# Altium schematic symbol library Arduino.SchLib: 3 symbols
Pins are listed as number, name and electrical type; pins without a type are passive.

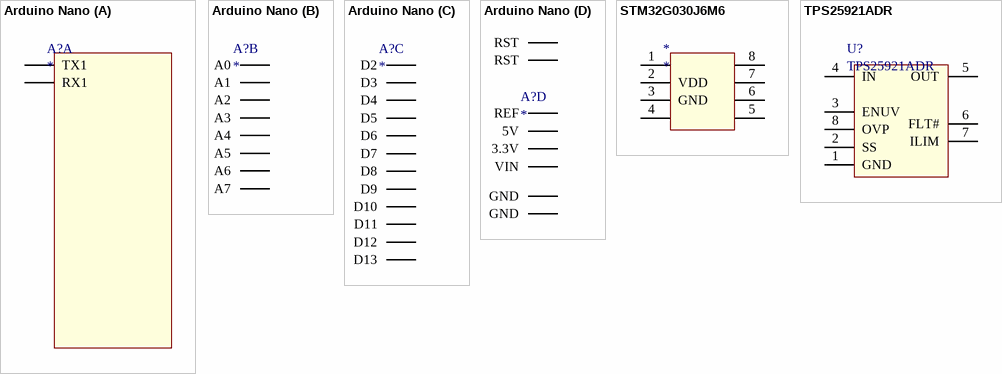
[diagram p0: symbols Arduino Nano to TPS25921ADR]

## Arduino Nano
designator A?
http://www.circuitstoday.com/arduino-nano-tutorial-pinout-schematics
footprint Arduino Nano
part A pins: 1 TX1, 2 RX1
part B pins: 19 A0, 20 A1, 21 A2, 22 A3, 23 A4, 24 A5, 25 A6, 26 A7
part C pins: 5 D2, 6 D3, 7 D4, 8 D5, 9 D6, 10 D7, 11 D8, 12 D9, 13 D10, 14 D11, 15 D12, 16 D13
part D pins: 3 RST, 4 GND, 17 3.3V, 18 REF, 27 5V, 28 RST, 29 GND, 30 VIN

## STM32G030J6M6
designator *
footprint SOIC8
pins: 1, 2 VDD, 3 GND, 4, 5, 6, 7, 8

## TPS25921ADR
designator U?
Electronic Fuse Regulator 1.7A 8-SOIC
footprint SOIC8
pins: 1 GND, 2 SS, 3 ENUV, 4 IN, 5 OUT, 6 FLT#, 7 ILIM, 8 OVP